# Altium footprint library Resist.PcbLib: 1 footprints
Each footprint in its own frame and in the unit in brackets; x right, y up, seen from the top. Pads: shape width x height; smd on the part's side, far side on the other; paste and mask are expansions set on the pad; w line width, h text height; cw(c..) or ccw(c..) is an arc to the next point about the centre after c.
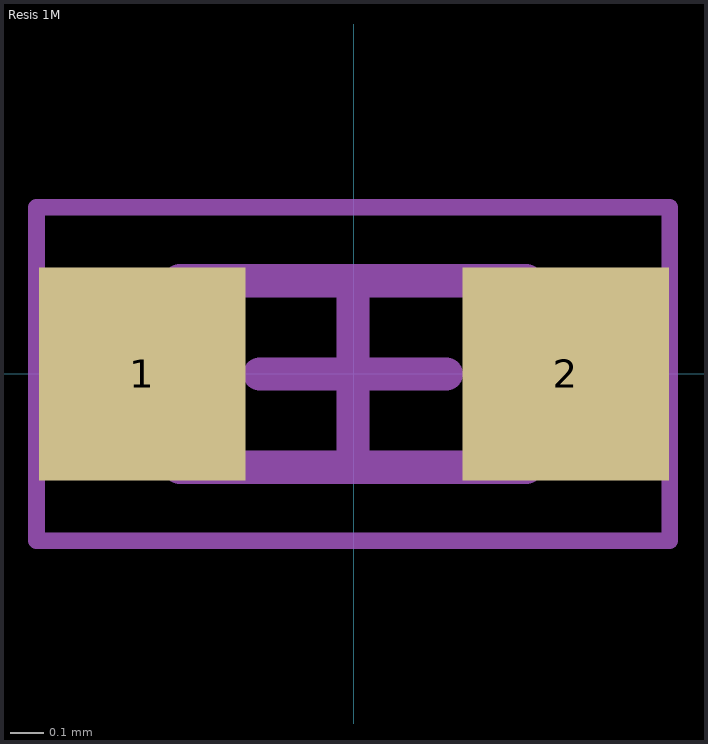
[diagram p0: the footprint, top view; thin cyan lines are the x and y axes]

## Resis 1M [mm]
pads (2):
  rect 0.62x0.64 smd: 1(-0.635,0) 2(0.635,0)
Mechanical 13:
  lines w0.1: -0.523,-0.28 0.517,-0.28 0.517,0.28 -0.523,0.28 -0.523,-0.28
Mechanical 15:
  lines w0.05: -0.953,-0.5 0.947,-0.5 0.947,0.5 -0.953,0.5 -0.953,-0.5
  lines w0.1: -0.283,0 0.277,0 ; -0.003,-0.28 -0.003,0.28
3D body: height 0.55, standoff 0, extent 0.287,-0.28 0.517,0.28
3D body: height 0.55, standoff 0, extent -0.523,-0.28 -0.293,0.28
3D body: height 0.55, standoff 0, extent -0.293,-0.28 0.287,0.28